# Altium footprint library my_first_iso_adc.PcbLib: 32 footprints (part 1 of 2)
Each footprint in its own frame and in the unit in brackets; x right, y up, seen from the top. Pads: shape width x height; smd on the part's side, far side on the other; paste and mask are expansions set on the pad; w line width, h text height; cw(c..) or ccw(c..) is an arc to the next point about the centre after c.
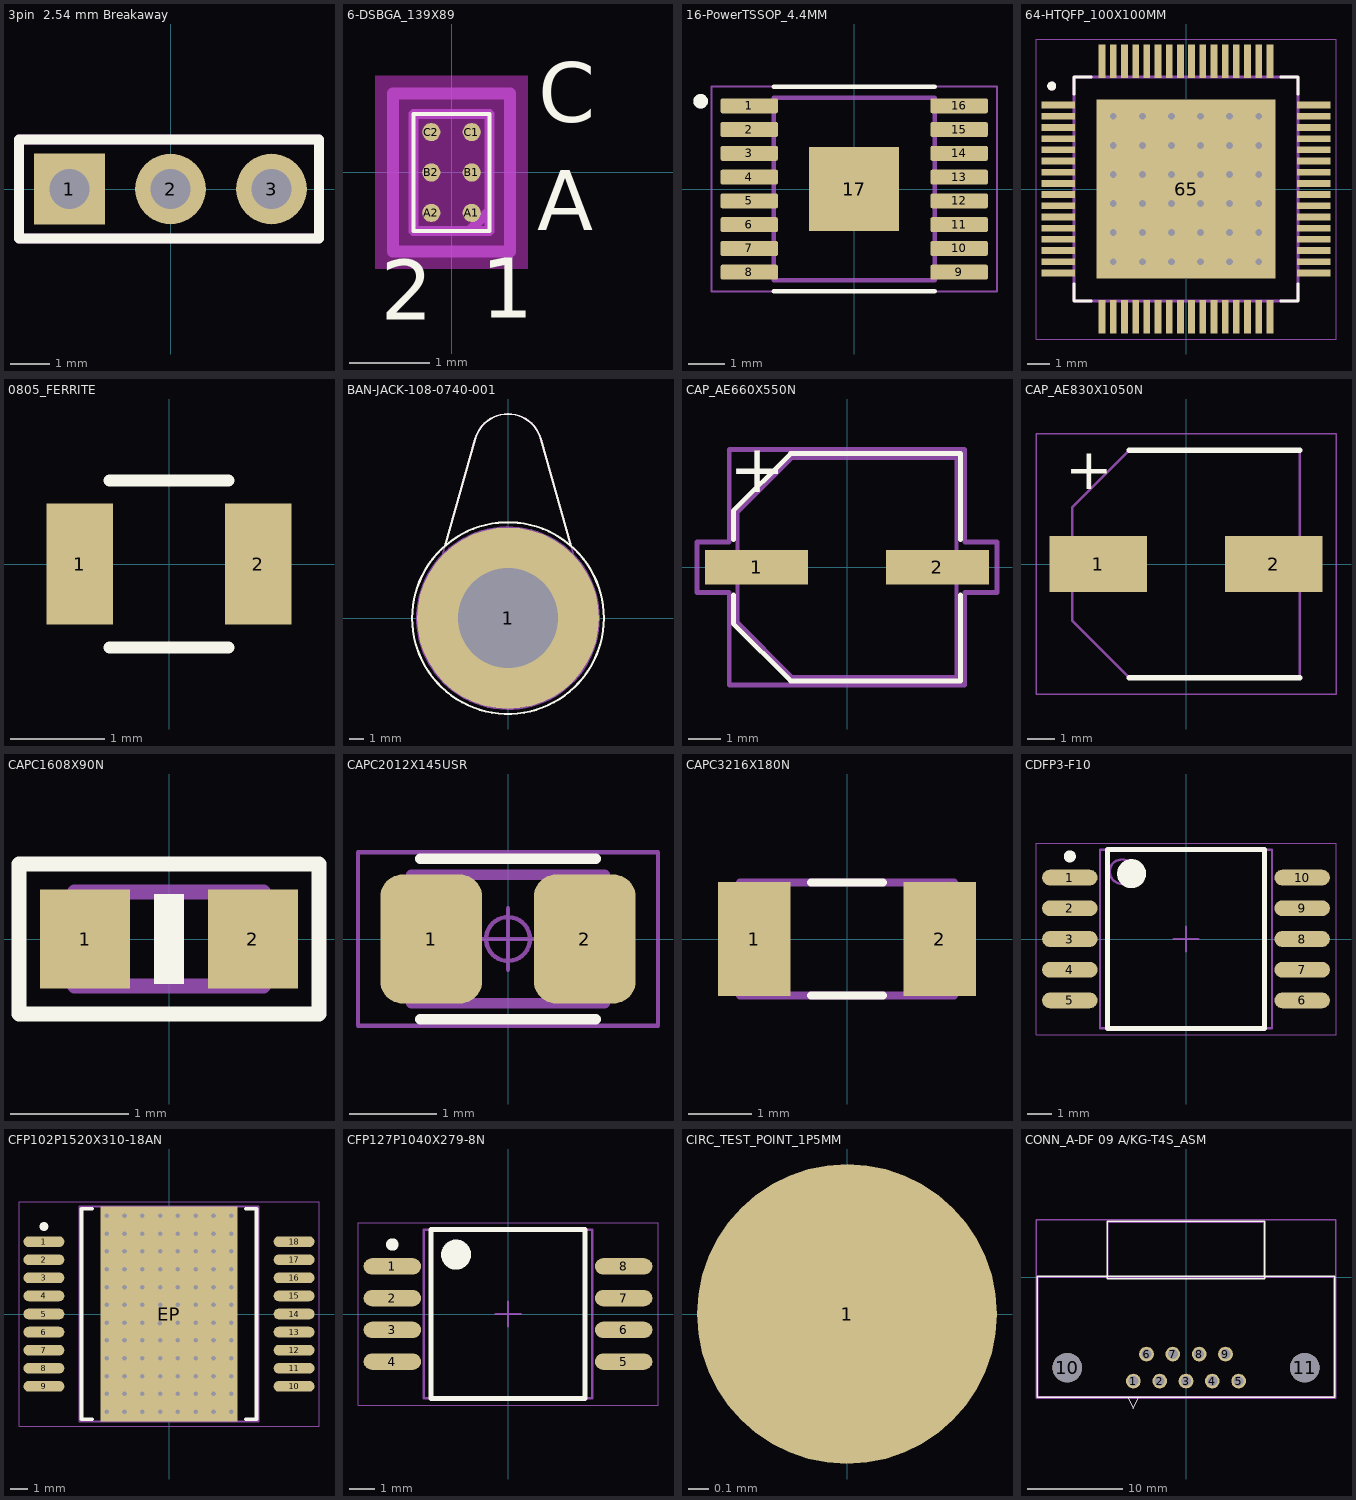
[diagram p0: the footprints below, top view; thin cyan lines are the x and y axes]

## 3pin  2.54 mm Breakaway [mil]
pads (3):
  rect 70x70 hole 40: 1(-100,0)
  round 70 hole 40: 2(0,0) 3(100,0)
Top Overlay:
  lines w10: -149.99,-49 147,-49 147,49 -149.99,49 -149.99,-49
Top Assembly:
  lines w10: -149.99,-49 147,-49 147,49 -149.99,49 -149.99,-49
  text ".Designator" at -21.25,-10.96 h40
3D body "61300311121_Download_STP_61300311121_rev1.stp": height 336.22, standoff -118.11, extent -153,-49 147,51

## 6-DSBGA_139X89 [mm]
pads (12):
  round 0.225 smd paste+0 mask+0.051: A1(0.25,-0.5) A2(-0.25,-0.5) B1(0.25,0) B2(-0.25,0) C1(0.25,0.5) C2(-0.25,0.5)
  rrect50% 0.25x0.25 on Top Paste: ""(-0.25,-0.5) ""(-0.25,0) ""(-0.25,0.5) ""(0.25,-0.5) ""(0.25,0) ""(0.25,0.5)
Top Overlay:
  lines w0.05: -0.47,-0.724 0.47,-0.724 0.47,0.724 -0.47,0.724 -0.47,-0.724
  text "C" at 1.073,0.382 h1.27
  text "A" at 1.062,-0.955 h1.27
  text "1" at 0.368,-2.041 h1.27
  text "2" at -0.876,-2.061 h1.27
Bottom Overlay:
  text "C" at 1.699,0.381 h1.27
  text "A" at 1.74,-1.135 h1.27
  text "1" at 0.127,-1.753 h1.27
  text "2" at -0.885,-1.994 h1.27
Keep-Out Layer:
  region: -0.944,-1.195 -0.944,1.195 0.944,1.195 0.944,-1.195
Top Assembly:
  lines w0.127: 0.22,-0.724 0.47,-0.474 ; -0.47,-0.724 0.47,-0.724 0.47,0.724 -0.47,0.724 -0.47,-0.724
  text "C" at 1.068,0.375 h1.27
  text ".Designator" at -0.361,-0.296 h1.02
  text "A" at 1.063,-0.938 h1.27
  text "1" at 0.22,-2.041 h1.27
  text "2" at -0.872,-2.067 h1.27
Top Courtyard:
  lines w0.152: -0.724,-0.978 0.724,-0.978 0.724,0.978 -0.724,0.978 -0.724,-0.978
3D body "YZP6.step": height 0.51, standoff 0, extent -0.47,-0.724 0.47,0.724

## 16-PowerTSSOP_4.4MM [mm]
pads (17):
  rrect25% 1.57x0.41 smd mask+0.05: 1(-2.87,2.275) 2(-2.87,1.625) 3(-2.87,0.975) 4(-2.87,0.325) 5(-2.87,-0.325) 6(-2.87,-0.975) 7(-2.87,-1.625) 8(-2.87,-2.275) 9(2.87,-2.275) 10(2.87,-1.625) 11(2.87,-0.975) 12(2.87,-0.325) 13(2.87,0.325) 14(2.87,0.975) 15(2.87,1.625) 16(2.87,2.275)
  rect 2.46x2.31 smd paste-3 mask+0.05: 17(0,0)
Top Overlay:
  circle w0.2: c-4.2,2.4 r0.1
  lines w0.127: -2.2,-2.8 2.2,-2.8 ; -2.2,2.8 2.2,2.8
Top Paste:
  region: 0.8,-1.075 -0.8,-1.075 -0.8,1.075 0.8,1.075
Top Assembly:
  circle w0.2: c-4.2,2.4 r0.1
  lines w0.127: -2.2,-2.5 -2.2,2.5 2.2,2.5 2.2,-2.5 -2.2,-2.5
  text ".Designator" at -0.89,-0.319 h1.02
Top Courtyard:
  lines w0.05: -3.905,-2.8 -3.905,2.8 3.905,2.8 3.905,-2.8 -3.905,-2.8
3D body "TPS62110HPWP.STEP": height 1.2, standoff 0, extent -3.2,-2.5 3.2,2.5

## 64-HTQFP_100X100MM [mm]
pads (65):
  rect 1.5x0.3 smd paste+0 mask+0.051: 1(-5.7,3.75) 2(-5.7,3.25) 3(-5.7,2.75) 4(-5.7,2.25) 5(-5.7,1.75) 6(-5.7,1.25) 7(-5.7,0.75) 8(-5.7,0.25) 9(-5.7,-0.25) 10(-5.7,-0.75) 11(-5.7,-1.25) 12(-5.7,-1.75) 13(-5.7,-2.25) 14(-5.7,-2.75) 15(-5.7,-3.25) 16(-5.7,-3.75)
  rect 0.3x1.5 smd mask+0.051: 17(-3.75,-5.7) 18(-3.25,-5.7) 19(-2.75,-5.7) 20(-2.25,-5.7) 21(-1.75,-5.7) 22(-1.25,-5.7) 23(-0.75,-5.7) 24(-0.25,-5.7) 25(0.25,-5.7) 26(0.75,-5.7) 27(1.25,-5.7) 28(1.75,-5.7) 29(2.25,-5.7) 30(2.75,-5.7) 31(3.25,-5.7) 32(3.75,-5.7) 49(3.75,5.7) 50(3.25,5.7) 51(2.75,5.7) 52(2.25,5.7) 53(1.75,5.7) 54(1.25,5.7) 55(0.75,5.7) 56(0.25,5.7) 57(-0.25,5.7) 58(-0.75,5.7) 59(-1.25,5.7) 60(-1.75,5.7) 61(-2.25,5.7) 62(-2.75,5.7) 63(-3.25,5.7) 64(-3.75,5.7)
  rect 1.5x0.3 smd mask+0.051: 33(5.7,-3.75) 34(5.7,-3.25) 35(5.7,-2.75) 36(5.7,-2.25) 37(5.7,-1.75) 38(5.7,-1.25) 39(5.7,-0.75) 40(5.7,-0.25) 41(5.7,0.25) 42(5.7,0.75) 43(5.7,1.25) 44(5.7,1.75) 45(5.7,2.25) 46(5.7,2.75) 47(5.7,3.25) 48(5.7,3.75)
  rect 8x8 smd paste-4.978: 65(0,0)
via -1.95,3.25 diameter 0.61 hole 0.305
via -0.65,3.25 diameter 0.61 hole 0.305
via 0.65,3.25 diameter 0.61 hole 0.305
via 1.95,3.25 diameter 0.61 hole 0.305
via 3.25,3.25 diameter 0.61 hole 0.305
via -3.25,1.95 diameter 0.61 hole 0.305
via -3.25,0.65 diameter 0.61 hole 0.305
via -3.25,-0.65 diameter 0.61 hole 0.305
via -3.25,-1.95 diameter 0.61 hole 0.305
via -3.25,-3.25 diameter 0.61 hole 0.305
via -1.95,1.95 diameter 0.61 hole 0.305
via -1.95,0.65 diameter 0.61 hole 0.305
via -1.95,-0.65 diameter 0.61 hole 0.305
via -1.95,-1.95 diameter 0.61 hole 0.305
via -1.95,-3.25 diameter 0.61 hole 0.305
via -0.65,1.95 diameter 0.61 hole 0.305
via -0.65,0.65 diameter 0.61 hole 0.305
via -0.65,-0.65 diameter 0.61 hole 0.305
via -0.65,-1.95 diameter 0.61 hole 0.305
via -0.65,-3.25 diameter 0.61 hole 0.305
via 0.65,1.95 diameter 0.61 hole 0.305
via 0.65,0.65 diameter 0.61 hole 0.305
via 0.65,-0.65 diameter 0.61 hole 0.305
via 0.65,-1.95 diameter 0.61 hole 0.305
via 0.65,-3.25 diameter 0.61 hole 0.305
via 1.95,1.95 diameter 0.61 hole 0.305
via 1.95,0.65 diameter 0.61 hole 0.305
via 1.95,-0.65 diameter 0.61 hole 0.305
via 1.95,-1.95 diameter 0.61 hole 0.305
via 1.95,-3.25 diameter 0.61 hole 0.305
via 3.25,1.95 diameter 0.61 hole 0.305
via 3.25,0.65 diameter 0.61 hole 0.305
via 3.25,-0.65 diameter 0.61 hole 0.305
via 3.25,-1.95 diameter 0.61 hole 0.305
via 3.25,-3.25 diameter 0.61 hole 0.305
via -3.25,3.25 diameter 0.61 hole 0.305
Top Overlay:
  circle w0.2: c-6,4.6 r0.1
  lines w0.127: -5,-4.23 -5,-5 -4.23,-5 ; -5,4.23 -5,5 -4.23,5 ; 4.23,-5 5,-5 5,-4.23 ; 4.23,5 5,5 5,4.23
Top Paste:
  region: 2.5,-2.5 -2.5,-2.5 -2.5,2.5 2.5,2.5
Top Solder:
  region: 2.5,-2.5 -2.5,-2.5 -2.5,2.5 2.5,2.5
Top Assembly:
  circle w0.2: c-6,4.6 r0.1
  lines w0.127: -5,-5 -5,5 5,5 5,-5 -5,-5
  text ".Designator" at -2.286,-0.254 h1.02
Top Courtyard:
  lines w0.05: -6.7,-6.7 -6.7,6.7 6.7,6.7 6.7,-6.7 -6.7,-6.7
3D body "ADS1278HPAP.STEP": height 1.2, standoff 0, extent -6,-6 6,6

## 0805_FERRITE [mil]
pads (2):
  rect 28x51 smd: 1(-37.5,0) 2(37.5,0)
Top Overlay:
  lines w5: -25,-35 25,-35 ; -25,35 25,35
3D body: height 50, standoff 0, extent -40,-25 40,25

## BAN-JACK-108-0740-001 [mm]
pads (1):
  round 12.7 / inner round 0 / far side round 12.7 hole 6.985: 1(0,0)
Top Overlay:
  circle w0.152: c0,0 r6.7
  lines w0.127: -4.41,5.044 -2.316,12.476 ; -2.309,12.499 cw(c0,11.88) 2.309,12.499 ; 2.315,12.476 4.408,5.046
Bottom Overlay:
  circle w0.152: c0,0 r6.7
  lines w0.127: -4.41,5.044 -2.316,12.476 ; -2.309,12.499 cw(c0,11.88) 2.309,12.499 ; 2.315,12.476 4.408,5.046
  text ".Designator" at -0.711,8.289 h1.27
Top Assembly:
  circle w0.152: c0,0 r6.35
  circle w0.152: c0,0 r3.5
  lines w0.127: -4.6,4.37 -2.316,12.476 ; -2.309,12.499 cw(c0,11.88) 2.309,12.499 ; 2.315,12.476 4.599,4.37
  text ".Designator" at -1.143,-0.677 h1.27
3D body "108-0740-001--3DModel-STEP-231308.STEP": height 2.5, standoff -13.37, extent -5.563,-5.563 5.563,14.275

## CAP_AE660X550N [mil]
pads (2):
  rect 126x42 smd paste+0 mask+0: 1(-110.5,0) 2(110.5,0)
Top Overlay:
  lines w6: -139,-34.1 -139,-69 -69,-139 139,-139 139,-34.1 ; -139,34.1 -139,69 -69,139 139,139 139,34.1
  text "+" at -144.09,92.01 h60
Top Assembly:
  lines w5: -134,-67 -67,-134 134,-134 134,134 -67,134 -134,67 -134,-67
  text ".Designator" at -8.91,-9.56 h40
Top Courtyard:
  lines w6: -183.5,-31 -144,-31 -144,-144 144,-144 144,-31 183.5,-31 183.5,31 144,31 144,144 -144,144 -144,31 -183.5,31 -183.5,-31
3D body "EDK476M025A9GAA.step": height 224.61, standoff 1.97, extent -145.67,-133.72 153.54,134

## CAP_AE830X1050N [mm]
pads (2):
  rect 3.55x2.05 smd: 1(-3.2,0) 2(3.2,0)
Top Overlay:
  lines w0.2: -2.075,-4.15 4.15,-4.15 ; -2.075,4.15 4.15,4.15
  text "+" at -4.406,2.726 h1.52
Top Assembly:
  lines w0.1: -4.15,-2.075 -4.15,2.075 -2.075,4.15 4.15,4.15 4.15,-4.15 -2.075,-4.15 -4.15,-2.075
  text ".Designator" at -0.499,-0.264 h1.02
Top Courtyard:
  lines w0.05: -5.475,-4.75 -5.475,4.75 5.475,4.75 5.475,-4.75 -5.475,-4.75
3D body "865080453012.stp": height 10.5, standoff 0, extent -4.25,-4.25 4.25,4.25

## CAPC1608X90N [mil]
pads (2):
  rect 30x33 smd mask+2: 1(-28,0) 2(28,0)
Top Overlay:
  rectangle: -5,-15 5,15
  lines w5: -50,-25 50,-25 50,25 -50,25 -50,-25
Top Assembly:
  lines w5: -31.5,-15.75 31.5,-15.75 31.5,15.75 -31.5,15.75 -31.5,-15.75
  text ".Designator" at -25,-15 h40
3D body "C1608X6S1C225K080AC.STEP": height 35.43, standoff 0, extent -31.49,-15.75 31.5,15.75

## CAPC2012X145USR [mm]
pads (2):
  rrect43% 1.16x1.47 smd: 1(-0.875,0) 2(0.875,0)
Top Overlay:
  lines w0.12: -1,-0.915 1,-0.915 ; -1,0.915 1,0.915
Top Assembly:
  lines w0.12: -1.1,-0.73 -1.1,0.73 1.1,0.73 1.1,-0.73 -1.1,-0.73
  text ".Designator" at -0.787,-0.162 h0.76
Top Courtyard:
  circle w0.05: c0,0 r0.25
  lines w0.05: -0.35,0 0.35,0 ; 0,-0.35 0,0.35 ; -1.71,-0.99 -1.71,0.99 1.71,0.99 1.71,-0.99 -1.71,-0.99
3D body "CAPC2012X145USR.STEP": height 1.45, standoff 0, extent -1,-0.625 1,0.625

## CAPC3216X180N [mm]
pads (2):
  rect 1.16x1.82 smd: 1(-1.475,0) 2(1.475,0)
Top Overlay:
  lines w0.127: -0.57,-0.9 0.57,-0.9 ; -0.57,0.9 0.57,0.9
Top Assembly:
  lines w0.127: -1.7,-0.9 1.7,-0.9 1.7,0.9 -1.7,0.9 -1.7,-0.9
  text ".Designator" at -0.228,-0.18 h0.76
3D body "CAP_GMC31_CCE.step": height 1.8, standoff 0, extent -1.753,-0.902 1.753,0.902

## CDFP3-F10 [mm]
pads (10):
  oval 2.3x0.65 smd: 1(-4.8,2.54) 2(-4.8,1.27) 3(-4.8,0) 4(-4.8,-1.27) 5(-4.8,-2.54) 6(4.8,-2.54) 7(4.8,-1.27) 8(4.8,0) 9(4.8,1.27) 10(4.8,2.54)
Top Overlay:
  circle w0.25: c-4.8,3.415 r0.125
  circle w0.6: c-2.25,2.7 r0.3
  lines w0.2: -3.25,-3.7 -3.25,3.7 3.25,3.7 3.25,-3.7 -3.25,-3.7
Top Assembly:
  circle w0.1: c-2.655,2.785 r0.5
  lines w0.1: -3.555,-3.685 -3.555,3.685 3.555,3.685 3.555,-3.685 -3.555,-3.685
  text ".Designator" at -0.068,-0.221 h1.02
Top Courtyard:
  lines w0.05: -6.2,-3.95 -6.2,3.95 6.2,3.95 6.2,-3.95 -6.2,-3.95
  lines w0.1: -0.5,0 0.5,0 ; 0,-0.5 0,0.5
3D body: height 2.92, standoff 0, extent -3.555,-3.685 3.555,3.685

## CFP102P1520X310-18AN [mm]
pads (19):
  oval 2.3x0.6 smd: 1(-7.025,4.064) 2(-7.025,3.048) 3(-7.025,2.032) 4(-7.025,1.016) 5(-7.025,0) 6(-7.025,-1.016) 7(-7.025,-2.032) 8(-7.025,-3.048) 9(-7.025,-4.064) 10(7.025,-4.064) 11(7.025,-3.048) 12(7.025,-2.032) 13(7.025,-1.016) 14(7.025,0) 15(7.025,1.016) 16(7.025,2.032) 17(7.025,3.048) 18(7.025,4.064)
  rect 7.7x12.09 smd paste-5.969: EP(0,0)
via 3.5,-5.485 diameter 0.457 hole 0.254
via 3.5,-4.485 diameter 0.457 hole 0.254
via 2.5,-4.485 diameter 0.457 hole 0.254
via 3.5,-3.485 diameter 0.457 hole 0.254
via 2.5,-3.485 diameter 0.457 hole 0.254
via 2.5,-5.485 diameter 0.457 hole 0.254
via 1.5,-5.485 diameter 0.457 hole 0.254
via 0.5,-5.485 diameter 0.457 hole 0.254
via 0.5,-4.485 diameter 0.457 hole 0.254
via 1.5,-3.485 diameter 0.457 hole 0.254
via 1.5,-4.485 diameter 0.457 hole 0.254
via -0.5,-3.485 diameter 0.457 hole 0.254
via 0.5,-3.485 diameter 0.457 hole 0.254
via 3.5,-1.485 diameter 0.457 hole 0.254
via 3.5,-2.485 diameter 0.457 hole 0.254
via 3.5,-0.485 diameter 0.457 hole 0.254
via 3.5,0.515 diameter 0.457 hole 0.254
via 2.5,-0.485 diameter 0.457 hole 0.254
via 2.5,-2.485 diameter 0.457 hole 0.254
via 1.5,-2.485 diameter 0.457 hole 0.254
via 0.5,-1.485 diameter 0.457 hole 0.254
via 0.5,-2.485 diameter 0.457 hole 0.254
via -0.5,-1.485 diameter 0.457 hole 0.254
via 2.5,-1.485 diameter 0.457 hole 0.254
via 1.5,-1.485 diameter 0.457 hole 0.254
via 1.5,-0.485 diameter 0.457 hole 0.254
via 0.5,-0.485 diameter 0.457 hole 0.254
via -0.5,-5.485 diameter 0.457 hole 0.254
via -1.5,-5.485 diameter 0.457 hole 0.254
via -0.5,-4.485 diameter 0.457 hole 0.254
via -1.5,-3.485 diameter 0.457 hole 0.254
via -1.5,-4.485 diameter 0.457 hole 0.254
via -2.5,-3.485 diameter 0.457 hole 0.254
via -2.5,-5.485 diameter 0.457 hole 0.254
via -3.5,-4.485 diameter 0.457 hole 0.254
via -3.5,-5.485 diameter 0.457 hole 0.254
via -2.5,-4.485 diameter 0.457 hole 0.254
via -3.5,-3.485 diameter 0.457 hole 0.254
via -0.5,-2.485 diameter 0.457 hole 0.254
via -0.508,-0.508 diameter 0.457 hole 0.254
via -1.5,-2.485 diameter 0.457 hole 0.254
via -1.5,-1.485 diameter 0.457 hole 0.254
via -1.5,0.515 diameter 0.457 hole 0.254
via -0.5,0.515 diameter 0.457 hole 0.254
via -2.5,-0.485 diameter 0.457 hole 0.254
via -1.5,-0.485 diameter 0.457 hole 0.254
via -2.5,-2.485 diameter 0.457 hole 0.254
via -3.5,-1.485 diameter 0.457 hole 0.254
via -2.5,-1.485 diameter 0.457 hole 0.254
via -3.5,-2.485 diameter 0.457 hole 0.254
via -3.5,-0.485 diameter 0.457 hole 0.254
via 3.5,1.515 diameter 0.457 hole 0.254
via 2.5,1.515 diameter 0.457 hole 0.254
via 2.5,2.515 diameter 0.457 hole 0.254
via 3.5,2.515 diameter 0.457 hole 0.254
via 2.5,0.515 diameter 0.457 hole 0.254
via 1.5,0.515 diameter 0.457 hole 0.254
via 0.5,0.515 diameter 0.457 hole 0.254
via 1.5,1.515 diameter 0.457 hole 0.254
via 0.5,2.515 diameter 0.457 hole 0.254
via 1.5,2.515 diameter 0.457 hole 0.254
via 0.5,1.515 diameter 0.457 hole 0.254
via -0.5,2.515 diameter 0.457 hole 0.254
via 3.5,3.515 diameter 0.457 hole 0.254
via 2.5,4.515 diameter 0.457 hole 0.254
via 3.5,5.515 diameter 0.457 hole 0.254
via 3.5,4.515 diameter 0.457 hole 0.254
via 2.5,5.515 diameter 0.457 hole 0.254
via 1.5,3.515 diameter 0.457 hole 0.254
via 2.5,3.515 diameter 0.457 hole 0.254
via 0.5,3.515 diameter 0.457 hole 0.254
via 0.5,4.515 diameter 0.457 hole 0.254
via 1.5,4.515 diameter 0.457 hole 0.254
via 1.5,5.515 diameter 0.457 hole 0.254
via -0.5,5.515 diameter 0.457 hole 0.254
via 0.5,5.515 diameter 0.457 hole 0.254
via -1.5,1.515 diameter 0.457 hole 0.254
via -0.5,1.515 diameter 0.457 hole 0.254
via -2.5,0.515 diameter 0.457 hole 0.254
via -2.5,1.515 diameter 0.457 hole 0.254
via -1.5,2.515 diameter 0.457 hole 0.254
via -2.5,2.515 diameter 0.457 hole 0.254
via -3.5,0.515 diameter 0.457 hole 0.254
via -3.5,1.515 diameter 0.457 hole 0.254
via -3.5,2.515 diameter 0.457 hole 0.254
via -0.5,3.515 diameter 0.457 hole 0.254
via -1.5,4.515 diameter 0.457 hole 0.254
via -0.5,4.515 diameter 0.457 hole 0.254
via -1.5,3.515 diameter 0.457 hole 0.254
via -2.5,4.515 diameter 0.457 hole 0.254
via -2.5,5.515 diameter 0.457 hole 0.254
via -1.5,5.515 diameter 0.457 hole 0.254
via -2.5,3.515 diameter 0.457 hole 0.254
via -3.5,3.515 diameter 0.457 hole 0.254
via -3.5,4.515 diameter 0.457 hole 0.254
via -3.5,5.515 diameter 0.457 hole 0.254
Top Overlay:
  circle w0.25: c-7.025,4.914 r0.125
  lines w0.2: -4.3,-5.918 -4.915,-5.918 -4.915,5.918 -4.3,5.918 ; 4.3,-5.918 4.915,-5.918 4.915,5.918 4.3,5.918
Top Paste:
  rectangle: 2.289,-5.711 3.711,-4.289
  rectangle: 2.289,-3.711 3.711,-2.289
  rectangle: 0.289,-5.711 1.711,-4.289
  rectangle: 0.289,-3.711 1.711,-2.289
  rectangle: 2.289,-1.711 3.711,-0.289
  rectangle: 0.289,-1.711 1.711,-0.289
  rectangle: -1.711,-5.711 -0.289,-4.289
  rectangle: -1.711,-3.711 -0.289,-2.289
  rectangle: -3.711,-5.711 -2.289,-4.289
  rectangle: -3.711,-3.711 -2.289,-2.289
  rectangle: -1.711,-1.711 -0.289,-0.289
  rectangle: -3.711,-1.711 -2.289,-0.289
  rectangle: 2.289,0.289 3.711,1.711
  rectangle: 0.289,0.289 1.711,1.711
  rectangle: 2.289,2.289 3.711,3.711
  rectangle: 2.289,4.289 3.711,5.711
  rectangle: 0.289,2.289 1.711,3.711
  rectangle: 0.289,4.289 1.711,5.711
  rectangle: -1.711,0.289 -0.289,1.711
  rectangle: -1.711,2.289 -0.289,3.711
  rectangle: -3.711,0.289 -2.289,1.711
  rectangle: -3.711,2.289 -2.289,3.711
  rectangle: -1.711,4.289 -0.289,5.711
  rectangle: -3.711,4.289 -2.289,5.711
Top Assembly:
  lines w0.1: -5.04,-6.045 5.04,-6.045 5.04,6.045 -5.04,6.045 -5.04,-6.045
  text ".Designator" at -0.198,-0.062 h1.02
Top Courtyard:
  lines w0.05: -8.425,-6.3 8.425,-6.3 8.425,6.3 -8.425,6.3 -8.425,-6.3
  lines w0.1: -1.27,0 1.27,0 ; 0,-1.27 0,1.27
3D body "CFP102P1520X310-18N.step": height 3.1, standoff 0, extent -7.765,-6.045 7.765,6.045

## CFP127P1040X279-8N [mm]
pads (8):
  oval 2.3x0.65 smd: 1(-4.625,1.905) 2(-4.625,0.635) 3(-4.625,-0.635) 4(-4.625,-1.905) 5(4.625,-1.905) 6(4.625,-0.635) 7(4.625,0.635) 8(4.625,1.905)
Top Overlay:
  circle w0.6: c-2.075,2.375 r0.3
  circle w0.25: c-4.625,2.78 r0.125
  lines w0.2: -3.075,-3.375 3.075,-3.375 3.075,3.375 -3.075,3.375 -3.075,-3.375
Top Assembly:
  lines w0.1: -3.365,-3.365 3.365,-3.365 3.365,3.365 -3.365,3.365 -3.365,-3.365
  text ".Designator" at -0.212,-0.351 h1.02
Top Courtyard:
  lines w0.05: -6,-3.65 6,-3.65 6,3.65 -6,3.65 -6,-3.65
  lines w0.1: -0.5,0 0.5,0 ; 0,-0.5 0,0.5
3D body "CFP127P1040X279-8N.step": height 1.9, standoff 0, extent -5.355,-3.365 5.355,3.365

## CIRC_TEST_POINT_1P5MM [mm]
pads (1):
  round 1.5 smd: 1(0,0)

## CONN_A-DF 09 A/KG-T4S_ASM [mil]
pads (11):
  round 61 hole 41 mask+0: 1(-218.11,-429.92) 2(-109.06,-429.92) 3(0,-429.92) 4(109.06,-429.92) 5(218.11,-429.92) 6(-163.58,-318.11) 7(-54.53,-318.11) 8(54.53,-318.11) 9(163.58,-318.11)
  round 122 hole 122 unplated: 10(-491.93,-374.02) 11(491.93,-374.02)
Top Overlay:
  lines w5: -240.61,-497 -218.11,-542 -195.61,-497
  lines w6: -616.5,-497 -616.5,5 616.5,5 616.5,-497 -616.5,-497 ; -326.5,-5 -326.5,233 326.5,233 326.5,-5 -326.5,-5
Top Assembly:
  lines w5: -243.11,-492 -218.11,-542 -193.11,-492 ; -611.5,-492 -611.5,0 611.5,0 611.5,-492 -611.5,-492 ; -321.5,0 -321.5,228 321.5,228 321.5,0 -321.5,0
  text ".Designator" at -16.76,-70.86 h40
Top Courtyard:
  lines w6: -621.5,-502 -621.5,238 621.5,238 621.5,-502 -621.5,-502
3D body "CONN_A-DF09AKG-T4S_ASM.step": height 504.02, standoff -125, extent -611.49,-492 611.5,228